# Altium footprint library gpn-badge.PcbLib: 33 footprints (part 1 of 3)
Each footprint in its own frame and in the unit in brackets; x right, y up, seen from the top. Pads: shape width x height; smd on the part's side, far side on the other; paste and mask are expansions set on the pad; w line width, h text height; cw(c..) or ccw(c..) is an arc to the next point about the centre after c.
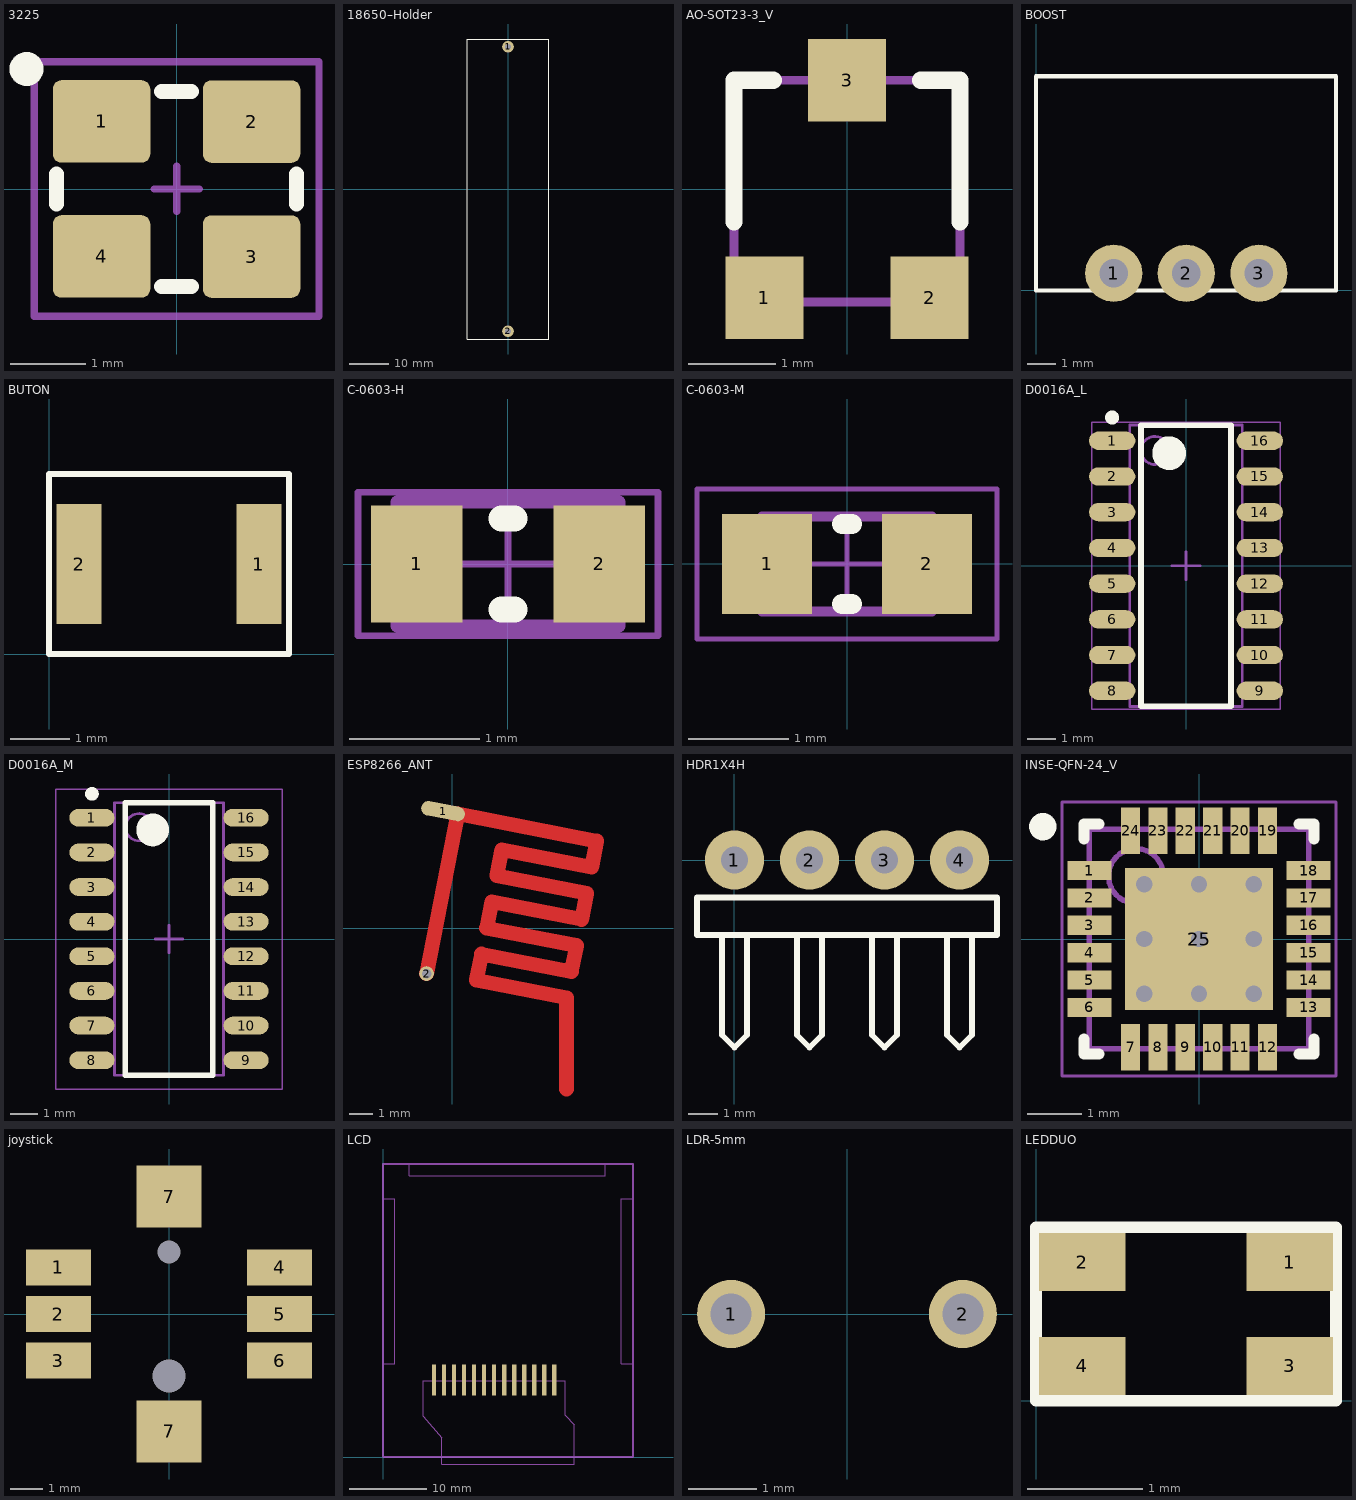
[diagram p0: the footprints below, top view; thin cyan lines are the x and y axes]

## 3225 [mm]
height 0.7
pads (4):
  rrect20% 1.3x1.1 smd: 1(-1,0.9) 2(1,0.9) 3(1,-0.9) 4(-1,-0.9)
Top Overlay:
  circle w0.254: c-2,1.6 r0.1
  lines w0.2: -1.6,-0.2 -1.6,0.2 ; -0.2,-1.3 0.2,-1.3 ; -0.2,1.3 0.2,1.3 ; 1.6,-0.2 1.6,0.2
Mechanical 15:
  lines w0.1: -0.3,0 0.3,0 ; 0,-0.3 0,0.3 ; -1.9,-1.7 1.9,-1.7 1.9,1.7 -1.9,1.7 -1.9,-1.7
3D body "User Library-User Library-Siward_SX3225.STEP": height 0.81, standoff 0, extent -1.6,-1.25 1.6,1.25

## 18650–Holder [mm]
height 0.7
pads (2):
  round 3 hole 1.5: 1(0,36.51) 2(0,-36.51)
Top Overlay:
  lines w0.2: -10.5,-38.5 -10.5,33.9 -10.5,38.5 -3,38.5 10.5,38.5 10.5,-38.5 -10.5,-38.5
3D body "18650holder.stp": height 21.46, standoff -2.45, extent -10.49,-38.5 10.49,38.46

## AO-SOT23-3_V [mm] "SOT23, 3-Leads, Body 3.016x2.8mm, Pitch 0.95mm"
height 0.7
pads (3):
  rect 0.9x0.95 smd: 1(-0.95,-1.25) 2(0.95,-1.25) 3(0,1.25)
Top Overlay:
  lines w0.2: -1.3,-0.375 -1.3,1.25 -0.85,1.25 ; 0.85,1.25 1.3,1.25 1.3,-0.375
Mechanical 7:
  rectangle: -0.3,1.25 0.3,1.5
  region: -0.625,-1.275 -1.225,-1.275 -1.225,-1.525 -0.625,-1.525
  region: 1.225,-1.275 0.625,-1.275 0.625,-1.525 1.225,-1.525
  lines w0.1: -1.3,-1.3 -1.3,1.25 1.3,1.25 1.3,-1.3 -1.3,-1.3
  text ".Comment" at -1.2,0.325 h0.5
  text ".Designator" at -1.2,0.75 h0.5
3D body: height 0.13, standoff 0, extent -0.239,0.651 0.268,1.362
3D body: height 0.13, standoff 0, extent 0.663,-1.254 1.17,-0.543
3D body: height 1.25, standoff 0, extent -1.142,-0.543 1.171,0.651
3D body: height 0.13, standoff 0, extent -1.115,-1.254 -0.608,-0.543

## BOOST [mm]
height 0.7
pads (3):
  round 2 hole 1: 1(2.72,0.6) 2(5.26,0.6) 3(7.8,0.6)
Top Overlay:
  lines w0.15: 0,0 10.5,0 10.5,7.5 0,7.5 0,0

## BUTON [mm]
height 0.7
pads (2):
  rect 0.75x2 smd: 1(3.5,1.5) 2(0.5,1.5)
Top Overlay:
  lines w0.1: 0,0 0,3 4,3 4,0 0,0

## C-0603-H [mm] "Chip Resistor, Body 1.6x0.8mm, IPC High Density"
height 0.6
pads (2):
  rect 0.7x0.9 smd: 1(-0.7,0) 2(0.7,0)
Top Overlay:
  lines w0.2: -0.05,-0.35 0.05,-0.35 ; -0.05,0.35 0.05,0.35
Mechanical 13:
  lines w0.1: -0.85,-0.475 0.85,-0.475 0.85,0.475 -0.85,0.475 -0.85,-0.475
Mechanical 15:
  lines w0.05: -0.475,0 0.475,0 ; 0,-0.475 0,0.475 ; -1.15,-0.55 1.15,-0.55 1.15,0.55 -1.15,0.55 -1.15,-0.55
3D body "User Library-CAP_SMD-1 (2).step": height 0.9, standoff 0, extent -0.85,-0.45 0.85,0.45

## C-0603-M [mm] "Chip Resistor, Body 1.6x0.8mm, IPC Medium Density"
height 0.6
pads (2):
  rect 0.9x1 smd: 1(-0.8,0) 2(0.8,0)
Top Overlay:
  lines w0.2: -0.05,-0.4 0.05,-0.4 ; -0.05,0.4 0.05,0.4
Mechanical 13:
  lines w0.1: -0.85,-0.475 0.85,-0.475 0.85,0.475 -0.85,0.475 -0.85,-0.475
Mechanical 15:
  lines w0.05: -0.475,0 0.475,0 ; 0,-0.475 0,0.475 ; -1.5,-0.75 1.5,-0.75 1.5,0.75 -1.5,0.75 -1.5,-0.75
3D body "User Library-CAP_SMD-1 (2).step": height 0.9, standoff 0, extent -0.85,-0.45 0.85,0.45

## D0016A_L [mm] "SOIC, 16-Leads, Body 10x4mm, Pitch 1.27mm, IPC High Density"
height 1.75
pads (16):
  oval 1.65x0.65 smd: 1(-2.625,4.445) 2(-2.625,3.175) 3(-2.625,1.905) 4(-2.625,0.635) 5(-2.625,-0.635) 6(-2.625,-1.905) 7(-2.625,-3.175) 8(-2.625,-4.445) 9(2.625,-4.445) 10(2.625,-3.175) 11(2.625,-1.905) 12(2.625,-0.635) 13(2.625,0.635) 14(2.625,1.905) 15(2.625,3.175) 16(2.625,4.445)
Top Overlay:
  circle w0.6: c-0.6,4 r0.3
  circle w0.25: c-2.625,5.27 r0.125
  lines w0.2: -1.6,-5 1.6,-5 1.6,5 -1.6,5 -1.6,-5
Mechanical 13:
  circle w0.1: c-1.1,4.1 r0.5
  lines w0.1: -2,-5 2,-5 2,5 -2,5 -2,-5
Mechanical 15:
  lines w0.05: -3.35,-5.1 3.35,-5.1 3.35,5.1 -3.35,5.1 -3.35,-5.1
  lines w0.1: -0.5,0 0.5,0 ; 0,-0.5 0,0.5
3D body "SOIC-16akaD0016AakaM16A.stp": height 1.59, standoff -0.01, extent -2.997,-4.953 2.997,4.953

## D0016A_M [mm] "SOIC, 16-Leads, Body 10x4mm, Pitch 1.27mm, IPC Low Density"
height 1.75
pads (16):
  oval 1.65x0.65 smd: 1(-2.825,4.445) 2(-2.825,3.175) 3(-2.825,1.905) 4(-2.825,0.635) 5(-2.825,-0.635) 6(-2.825,-1.905) 7(-2.825,-3.175) 8(-2.825,-4.445) 9(2.825,-4.445) 10(2.825,-3.175) 11(2.825,-1.905) 12(2.825,-0.635) 13(2.825,0.635) 14(2.825,1.905) 15(2.825,3.175) 16(2.825,4.445)
Top Overlay:
  circle w0.6: c-0.6,4 r0.3
  circle w0.25: c-2.825,5.32 r0.125
  lines w0.2: -1.6,-5 1.6,-5 1.6,5 -1.6,5 -1.6,-5
Mechanical 1:
Mechanical 13:
  circle w0.1: c-1.1,4.1 r0.5
  lines w0.1: -2,-5 2,-5 2,5 -2,5 -2,-5
Mechanical 15:
  lines w0.05: -4.15,-5.5 4.15,-5.5 4.15,5.5 -4.15,5.5 -4.15,-5.5
  lines w0.1: -0.5,0 0.5,0 ; 0,-0.5 0,0.5
3D body "SOIC-16akaD0016AakaM16A.stp": height 1.59, standoff -0.01, extent -2.997,-4.953 2.997,4.953

## ESP8266_ANT [mil] "ESP8266_ANT"
height 27.56
pads (2):
  oval 75x25 smd rot 169 paste-78.74: 1(-15.69,198.06)
  round 25 hole 16 paste-78.74: 2(-43.62,-76.66)
Top Layer:
  lines w25: -43.62,-76.66 8.85,193.29 244.44,147.49 235.86,103.32 83.71,132.9 75.12,88.72 227.27,59.15 218.68,14.97 66.53,44.55 57.95,0.38 210.1,-29.2 201.51,-73.37 49.36,-43.8 40.77,-87.97 192.93,-117.55 192.93,-271.96

## HDR1X4H [mm] "Connector; Header; 4 Position; Right Angle"
height 0.7
pads (4):
  round 2 hole 0.9: 1(0,0) 2(2.54,0) 3(5.08,0) 4(7.62,0)
Top Overlay:
  lines w0.2: -0.423,-2.54 -0.423,-5.927 0,-6.35 0.423,-5.927 0.423,-2.54 ; 2.117,-2.54 2.117,-5.927 2.54,-6.35 2.963,-5.927 2.963,-2.54 ; 4.657,-2.54 4.657,-5.927 5.08,-6.35 5.503,-5.927 5.503,-2.54 ; 7.197,-2.54 7.197,-5.927 7.62,-6.35 8.043,-5.927 8.043,-2.54 ; -1.27,-2.54 -1.27,-1.27 8.89,-1.27 8.89,-2.54 -1.27,-2.54

## INSE-QFN-24_V [mm] "QFN, 24-Leads, Body 4.00x4.00mm, Pitch 0.50mm, Thermal Pad 2.7x2.6mm"
height 0.95
pads (25):
  rect 0.8x0.35 smd: 1(-2,1.25) 2(-2,0.75) 3(-2,0.25) 4(-2,-0.25) 5(-2,-0.75) 6(-2,-1.25) 13(2,-1.25) 14(2,-0.75) 15(2,-0.25) 16(2,0.25) 17(2,0.75) 18(2,1.25)
  rect 0.35x0.85 smd: 7(-1.25,-1.975) 8(-0.75,-1.975) 9(-0.25,-1.975) 10(0.25,-1.975) 11(0.75,-1.975) 12(1.25,-1.975) 19(1.25,1.975) 20(0.75,1.975) 21(0.25,1.975) 22(-0.25,1.975) 23(-0.75,1.975) 24(-1.25,1.975)
  rect 2.7x2.6 smd: 25(0,0)
via 1,-1 diameter 0.5 hole 0.3
via 0,-1 diameter 0.5 hole 0.3
via -1,-1 diameter 0.5 hole 0.3
via 1,0 diameter 0.5 hole 0.3
via 0,0 diameter 0.5 hole 0.3
via -1,0 diameter 0.5 hole 0.3
via 1,1 diameter 0.5 hole 0.3
via 0,1 diameter 0.5 hole 0.3
via -1,1 diameter 0.5 hole 0.3
Top Overlay:
  circle w0.25: c-2.85,2.05 r0.125
  lines w0.2: -2.1,-1.825 -2.1,-2.1 -1.825,-2.1 ; -2.1,1.825 -2.1,2.1 -1.825,2.1 ; 1.825,-2.1 2.1,-2.1 2.1,-1.825 ; 1.825,2.1 2.1,2.1 2.1,1.825
Mechanical 13:
  circle w0.1: c-1.15,1.15 r0.5
  lines w0.1: -2,-2 2,-2 2,2 -2,2 -2,-2
Mechanical 15:
  lines w0.05: -2.5,-2.5 -2.5,2.5 2.5,2.5 2.5,-2.5 -2.5,-2.5
  lines w0.1: -0.5,0 0.5,0 ; 0,-0.5 0,0.5
3D body: height 0.95, standoff 0, extent -2,-2 2,2

## joystick [mm]
height 0.7
pads (10):
  round 0 hole 1 unplated: 0(0,-1.9)
  round 0 hole 0.7 unplated: 0(0,1.9)
  rect 2x1.1 smd: 1(-3.39,1.43) 2(-3.39,0) 3(-3.39,-1.43) 4(3.39,1.43) 5(3.39,0) 6(3.39,-1.43)
  rect 2x1.9 smd: 7(0,-3.6) 7(0,3.6)
3D body "joys.stp": height 5, standoff -0.5, extent -3.741,-3.75 3.742,3.75

## LCD [mm]
height 0.7
pads (13):
  rect 0.55x4 smd: 1(22.2,10) 2(20.9,10) 3(19.6,10) 4(18.3,10) 5(17,10) 6(15.7,10) 7(14.4,10) 8(13.1,10) 9(11.8,10) 10(10.5,10) 11(9.2,10) 12(7.9,10) 13(6.6,10)
Mechanical 13:
  lines w0.15: 0,12.1 1.5,12.1 1.5,33.5 0,33.5 ; 3.4,38 3.4,36.5 28.8,36.5 28.8,38 ; 32.4,12.1 30.9,12.1 30.9,33.5 32.4,33.5 ; 5.2,5.3 5.2,9.9 23.6,9.9 23.6,5.4 24.8,4.2 24.8,1.8 24.8,-0.9 7.6,-0.9 7.6,2.5 5.2,5.3
  lines w0.254: 0,0 32.4,0 32.4,38 0,38 0,0
  text "Double Side Tape" at 10,36.9 h0.8
  text "Double Side Tape" at 32,16.5 h0.8
  text "Double Side Tape" at 1.1,16.5 h0.8
3D body "disp.stp": height 0, standoff -3.5, extent 0.1,-2.5 32.3,38.1

## LDR-5mm [mm]
height 0.7
pads (2):
  round 1 hole 0.6: 1(-1.7,0) 2(1.7,0)
3D body "LDR cell thru-hole leaded.stp": height 3.17, standoff -2.3, extent -2.525,-2.125 2.525,2.125

## LEDDUO [mm]
height 0.7
pads (4):
  rect 0.75x0.5 smd: 1(2.2,1.2) 2(0.4,1.2) 3(2.2,0.3) 4(0.4,0.3)
Top Overlay:
  lines w0.1: 0,0 0,1.5 2.6,1.5 2.6,0 0,0